# Altium schematic symbol library Schlib1.SchLib: 17 symbols
Pins are listed as number, name and electrical type; pins without a type are passive.

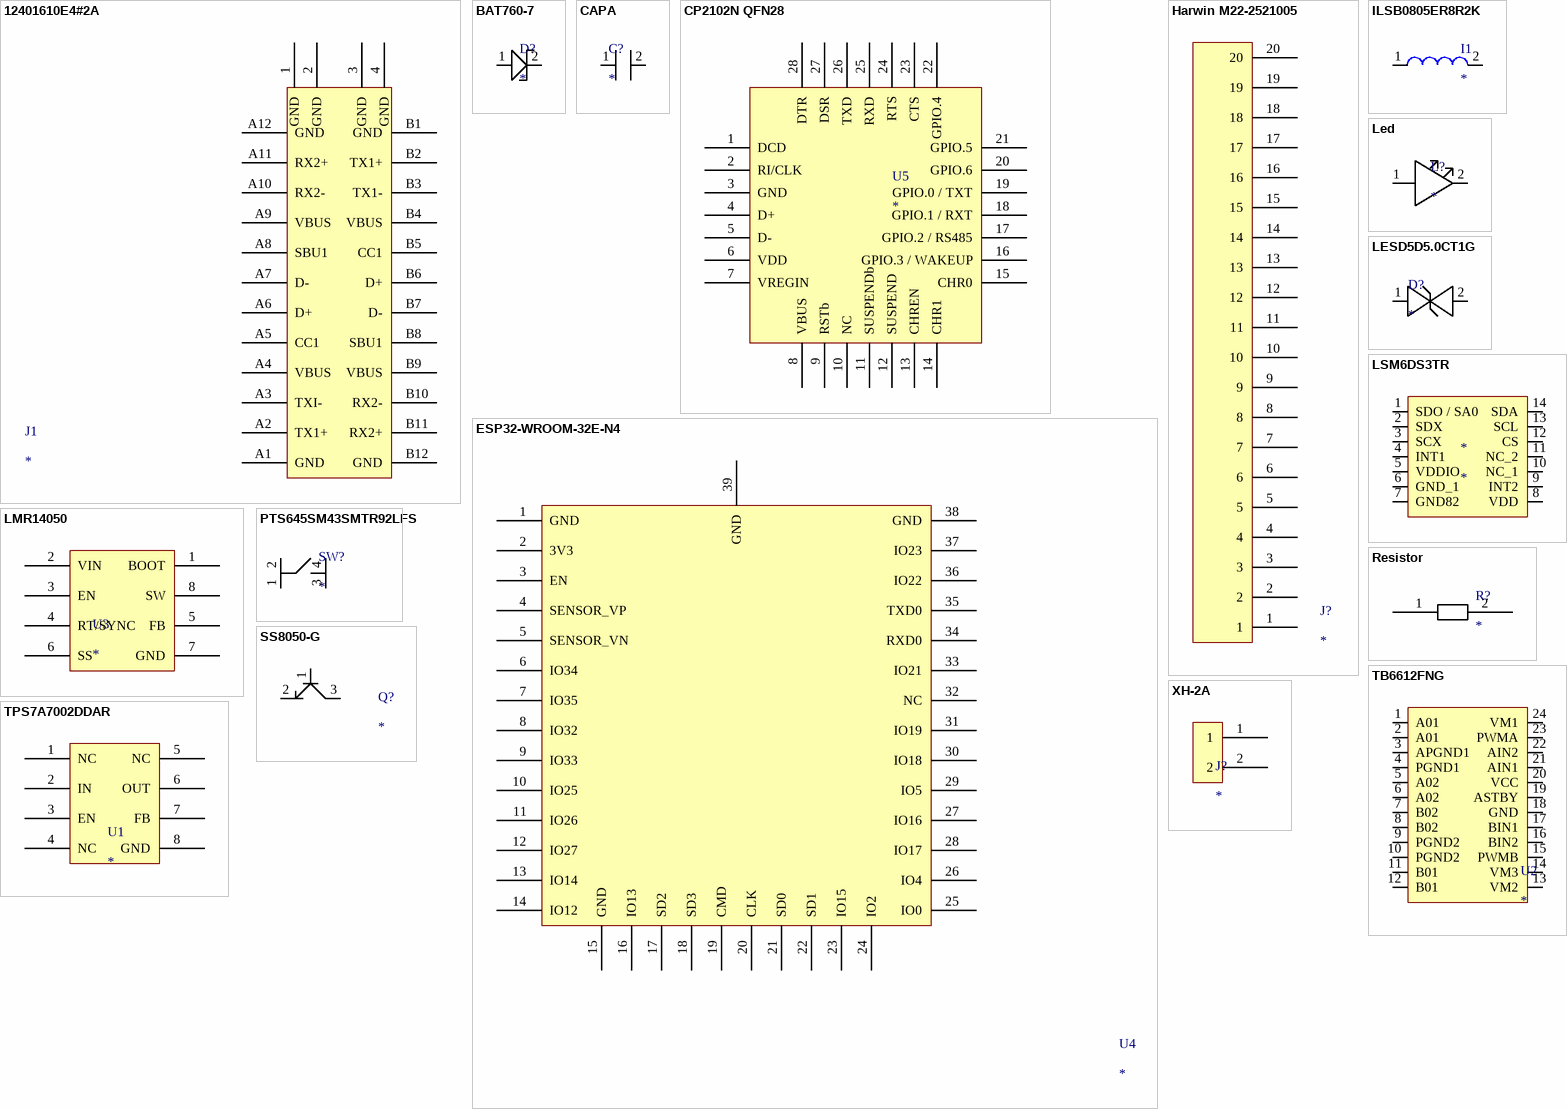
[diagram p0: symbols 12401610E4#2A to XH-2A]

## 12401610E4#2A
designator J1
footprint 105450-0101 (importé !)
pins: 1 GND, 2 GND, 3 GND, 4 GND, A1 GND, A2 TX1+, A3 TXI-, A4 VBUS, A5 CC1, A6 D+, A7 D-, A8 SBU1, A9 VBUS, A10 RX2-, A11 RX2+, A12 GND, B1 GND, B2 TX1+, B3 TX1-, B4 VBUS, B5 CC1, B6 D+, B7 D-, B8 SBU1, B9 VBUS, B10 RX2-, B11 RX2+, B12 GND

## BAT760-7
designator D?
footprint BAT760-7
pins: 1, 2

## CAPA
designator C?
footprint Condo
pins: 1 IN, 2 OUT

## CP2102N QFN28
designator U5
footprint cp2102 (QFN, 28-Leads, Body 5,00x5,00mm, Pitch 0,50mm, Thermal Pad 3,13x3,13mm, IPC Medium Density)
pins: 1 DCD, 2 RI/CLK, 3 GND, 4 D+, 5 D-, 6 VDD, 7 VREGIN, 8 VBUS, 9 RSTb, 10 NC, 11 SUSPENDb, 12 SUSPEND, 13 CHREN, 14 CHR1, 15 CHR0, 16 GPIO.3 / WAKEUP, 17 GPIO.2 / RS485, 18 GPIO.1 / RXT, 19 GPIO.0 / TXT, 20 GPIO.6, 21 GPIO.5, 22 GPIO.4, 23 CTS, 24 RTS, 25 RXD, 26 TXD, 27 DSR, 28 DTR

## ESP32-WROOM-32E-N4
designator U4
footprint ESP32-WROOM-32E
pins: 1 GND, 2 3V3, 3 EN, 4 SENSOR_VP, 5 SENSOR_VN, 6 IO34, 7 IO35, 8 IO32, 9 IO33, 10 IO25, 11 IO26, 12 IO27, 13 IO14, 14 IO12, 15 GND, 16 IO13, 17 SD2, 18 SD3, 19 CMD, 20 CLK, 21 SD0, 22 SD1, 23 IO15, 24 IO2, 25 IO0, 26 IO4, 27 IO16, 28 IO17, 29 IO5, 30 IO18, 31 IO19, 32 NC, 33 IO21, 34 RXD0, 35 TXD0, 36 IO22, 37 IO23, 38 GND, 39 GND

## Harwin M22-2521005
designator J?
footprint M22-2521005
pins: 1, 2, 3, 4, 5, 6, 7, 8, 9, 10, 11, 12, 13, 14, 15, 16, 17, 18, 19, 20

## ILSB0805ER8R2K
designator I1
footprint ILSB0805ER8R2K (Molded Diode, 2-Leads, Body 2,00x1,25mm, IPC Medium Density)
pins: 1, 2

## Led
designator L?
footprint LED
pins: 1, 2

## LESD5D5.0CT1G
designator D?
footprint LESD5D5.0CT1G (SODFL, 2-Leads, Body 0,80x1,60mm, IPC Medium Density)
pins: 1 vcc, 2 gnd

## LMR14050
designator U3
footprint LMR14050
pins: 1 BOOT, 2 VIN, 3 EN, 4 RT/SYNC, 5 FB, 6 SS, 7 GND, 8 SW

## LSM6DS3TR
designator *
footprint LSM6DS3TR
pins: 1 SDO / SA0, 2 SDX, 3 SCX, 4 INT1, 5 VDDIO, 6 GND_1, 7 GND82, 8 VDD, 9 INT2, 10 NC_1, 11 NC_2, 12 CS, 13 SCL, 14 SDA

## PTS645SM43SMTR92LFS
designator SW?
footprint PTS645SM43SMTR92LFS
pins: 1, 2, 3, 4

## Resistor
designator R?
footprint Resistor
pins: 1, 2

## SS8050-G
designator Q?
footprint SS8050-G
pins: 1, 2, 3

## TB6612FNG
designator U2
footprint TB6612FNG
pins: 1 A01, 2 A01, 3 APGND1, 4 PGND1, 5 A02, 6 A02, 7 B02, 8 B02, 9 PGND2, 10 PGND2, 11 B01, 12 B01, 13 VM2, 14 VM3, 15 PWMB, 16 BIN2, 17 BIN1, 18 GND, 19 ASTBY, 20 VCC, 21 AIN1, 22 AIN2, 23 PWMA, 24 VM1

## TPS7A7002DDAR
designator U1
footprint TPS7A7002DDAR (SOIC, 8-Leads, Body 4,90x3,90mm, Pitch 1,27mm, Thermal Pad 0,00x0,00mm, IPC Medium Density)
pins: 1 NC, 2 IN, 3 EN, 4 NC, 5 NC, 6 OUT, 7 FB, 8 GND

## XH-2A
designator J?
footprint XH-2A
pins: 1, 2